# Altium schematic symbol library 10129381-924003BLF.SchLib: 1 symbol
Pins are listed as number, name and electrical type; pins without a type are passive.

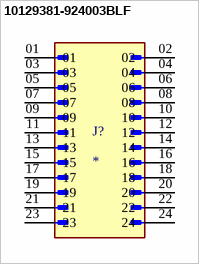
[diagram p0: symbol 10129381-924003BLF]

## 10129381-924003BLF
designator J?
MF: {'manufacturer': u'Amphenol ICC (FCI)'}; MP: 10129381-924003BLF; Package: None; Price: None; Value: *; Availability: Unavailable
footprint AMPHENOL_10129381-924003BLF
pins: 01, 02, 03, 04, 05, 06, 07, 08, 09, 10, 11, 12, 13, 14, 15, 16, 17, 18, 19, 20, 21, 22, 23, 24